# Altium schematic symbol library SCH_Sensor.SchLib: 18 symbols
Pins are listed as number, name and electrical type; pins without a type are passive.

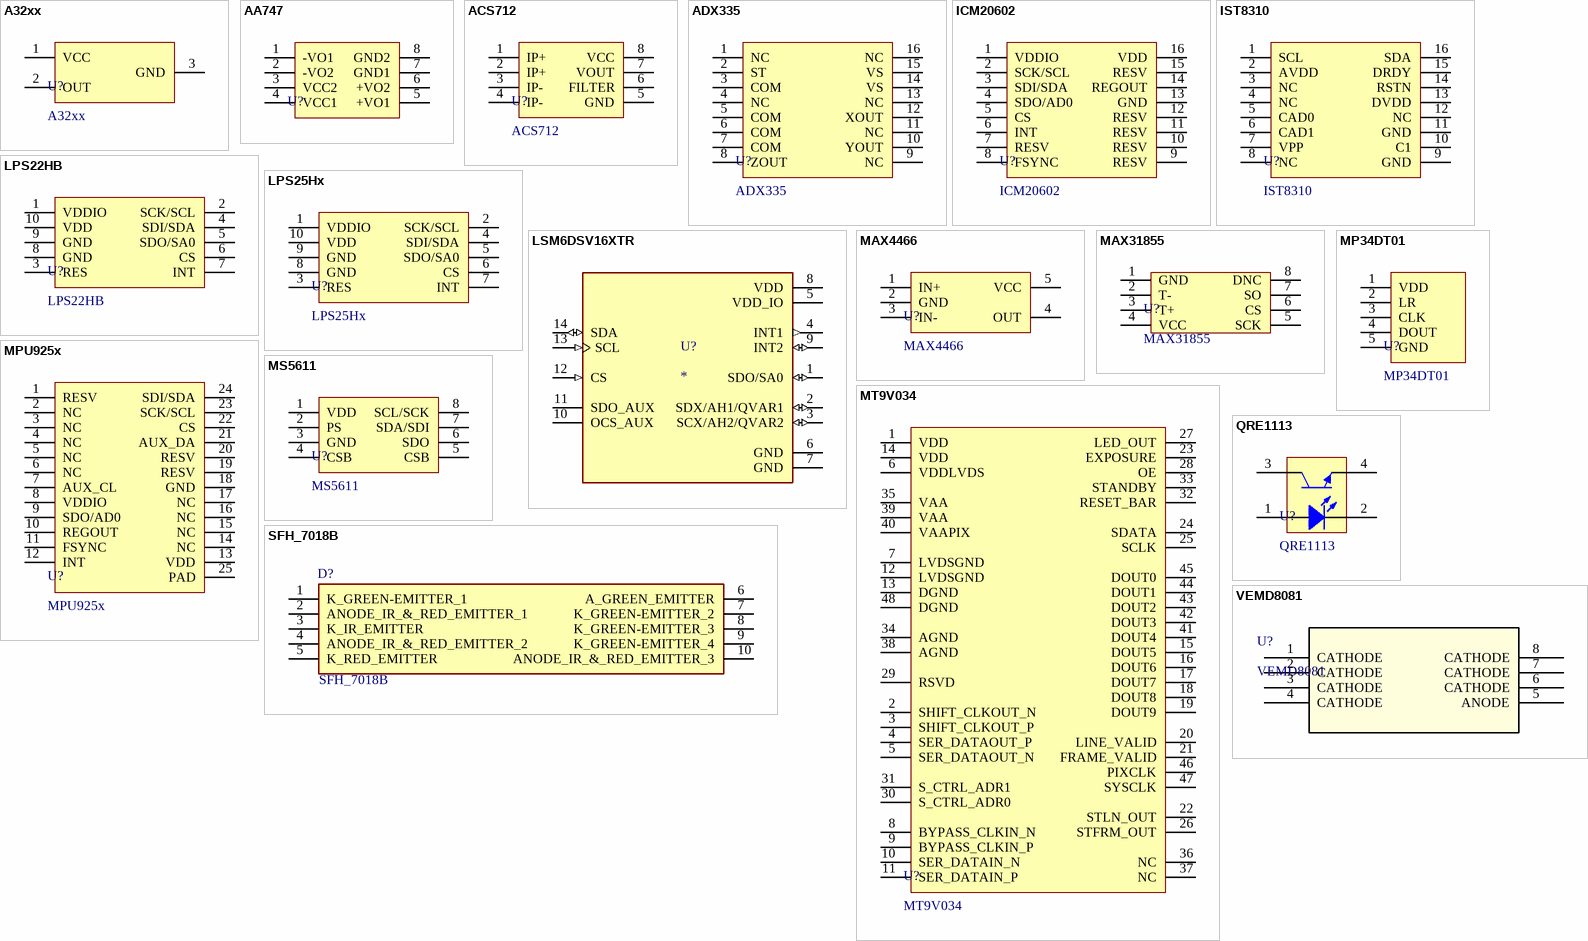
[diagram p0: symbols A32xx to VEMD8081]

## A32xx
designator U?
Sensor Hall; Type: *
footprint SOT23-3
pins: 1 VCC, 2 OUT, 3 GND

## AA747
designator U?  (value not drawn)
Sensor Angular; Manufacturer: Sensitec GmbH; Value: E150 P1.27; Specification: -40 °C to +150 °C; Type: SOP8; Parameter 1: *
footprint SOP_E150_8
pins: 1 -VO1, 2 -VO2, 3 VCC2, 4 VCC1, 5 +VO1, 6 +VO2, 7 GND1, 8 GND2

## ACS712
designator U?
Sensor Current; Type: *
footprint SOP_E150_8
pins: 1 IP+, 2 IP+, 3 IP-, 4 IP-, 5 GND, 6 FILTER, 7 VOUT, 8 VCC

## ADX335
designator U?
Sensor Motion; Type: *
footprint QFN_P0.65_16
pins: 1 NC, 2 ST, 3 COM, 4 NC, 5 COM, 6 COM, 7 COM, 8 ZOUT, 9 NC, 10 YOUT, 11 NC, 12 XOUT, 13 NC, 14 VS, 15 VS, 16 NC

## ICM20602
designator U?
Sensor Motion; Type: LGA16 P0.5
footprint LGA_P0.5_16
pins: 1 VDDIO, 2 SCK/SCL, 3 SDI/SDA, 4 SDO/AD0, 5 CS, 6 INT, 7 RESV, 8 FSYNC, 9 RESV, 10 RESV, 11 RESV, 12 RESV, 13 GND, 14 REGOUT, 15 RESV, 16 VDD

## IST8310
designator U?
Sensor Magnetometer; Type: QFN16 P0.5
footprint QFN_P0.5_16
pins: 1 SCL, 2 AVDD, 3 NC, 4 NC, 5 CAD0, 6 CAD1, 7 VPP, 8 NC, 9 GND, 10 C1, 11 GND, 12 NC, 13 DVDD, 14 RSTN, 15 DRDY, 16 SDA

## LPS22HB
designator U?
Sensor Pressure; Type: LGA10 P0.5
footprint HCLGA-2x2_10
pins: 1 VDDIO, 2 SCK/SCL, 3 RES, 4 SDI/SDA, 5 SDO/SA0, 6 CS, 7 INT, 8 GND, 9 GND, 10 VDD

## LPS25Hx
designator U?
Sensor Pressure
footprint HCLGA-2.5x2.5_10
pins: 1 VDDIO, 2 SCK/SCL, 3 RES, 4 SDI/SDA, 5 SDO/SA0, 6 CS, 7 INT, 8 GND, 9 GND, 10 VDD

## LSM6DSV16XTR
designator U?
Accelerometer, Gyroscope, Temperature, 6 Axis Sensor I2C, SPI Output; MF: STMicroelectronics; MP: LSM6DSV16XTR; SnapEDA_Link: https://www.snapeda.com/parts/LSM6DSV16XTR/STMicroelectronics/view-part/?ref=snap; Package: None; Value: *; Check_prices: https://www.snapeda.com/parts/LSM6DSV16XTR/STMicroelectronics/view-part/?ref=eda
footprint XDCR_LSM6DSV16XTR
pins: 1 SDO/SA0 (io), 2 SDX/AH1/QVAR1 (io), 3 SCX/AH2/QVAR2 (io), 4 INT1 (out), 5 VDD_IO (power), 6 GND (power), 7 GND (power), 8 VDD (power), 9 INT2 (io), 10 OCS_AUX, 11 SDO_AUX, 12 CS (in), 13 SCL (in), 14 SDA (io)

## MAX4466
designator U?
Sensor Microphone
footprint SOT23-5
pins: 1 IN+, 2 GND, 3 IN-, 4 OUT, 5 VCC

## MAX31855
designator U?
Sensor Thermocouple
footprint SOIC_E200_8
pins: 1 GND, 2 T-, 3 T+, 4 VCC, 5 SCK, 6 CS, 7 SO, 8 DNC

## MP34DT01
designator U?
Sensor Microphone
footprint HCLGA_3x4_4
pins: 1 VDD, 2 LR, 3 CLK, 4 DOUT, 5 GND

## MPU925x
designator U?
Sensor Motion; Type: QFN24 P0.4
footprint QFN_P0.4_24
pins: 1 RESV, 2 NC, 3 NC, 4 NC, 5 NC, 6 NC, 7 AUX_CL, 8 VDDIO, 9 SDO/AD0, 10 REGOUT, 11 FSYNC, 12 INT, 13 VDD, 14 NC, 15 NC, 16 NC, 17 NC, 18 GND, 19 RESV, 20 RESV, 21 AUX_DA, 22 CS, 23 SCK/SCL, 24 SDI/SDA, 25 PAD

## MS5611
designator U?
Sensor Barometer
footprint OTHER_MS5611_8
pins: 1 VDD, 2 PS, 3 GND, 4 CSB, 5 CSB, 6 SDO, 7 SDA/SDI, 8 SCL/SCK

## MT9V034
designator U?
Sensor Camera
footprint CLCC_48 (LCC, 48-Pins, Body 11.43x11.43mmx2.30mm, Pitch 0.80mm, IPC Medium Density)
pins: 1 VDD, 2 SHIFT_CLKOUT_N, 3 SHIFT_CLKOUT_P, 4 SER_DATAOUT_P, 5 SER_DATAOUT_N, 6 VDDLVDS, 7 LVDSGND, 8 BYPASS_CLKIN_N, 9 BYPASS_CLKIN_P, 10 SER_DATAIN_N, 11 SER_DATAIN_P, 12 LVDSGND, 13 DGND, 14 VDD, 15 DOUT5, 16 DOUT6, 17 DOUT7, 18 DOUT8, 19 DOUT9, 20 LINE_VALID, 21 FRAME_VALID, 22 STLN_OUT, 23 EXPOSURE, 24 SDATA, 25 SCLK, 26 STFRM_OUT, 27 LED_OUT, 28 OE, 29 RSVD, 30 S_CTRL_ADR0, 31 S_CTRL_ADR1, 32 RESET_BAR, 33 STANDBY, 34 AGND, 35 VAA, 36 NC, 37 NC, 38 AGND, 39 VAA, 40 VAAPIX, 41 DOUT4, 42 DOUT3, 43 DOUT2, 44 DOUT1, 45 DOUT0, 46 PIXCLK, 47 SYSCLK, 48 DGND

## QRE1113
designator U?
Sensor IR
footprint QRE1113GR
pins: 1 A, 2 C, 3 C, 4 E

## SFH_7018B
designator D?
Mid-Power LEDs - Multi-Color RED, GREEN, INFRARED LED SMD; Manufacturer_Name: ams OSRAM; Manufacturer_Part_Number: SFH 7018B; Geometry.Height: 0.6mm; Mouser Part Number: 720-SFH7018B; Mouser Price/Stock: https://www.mouser.co.uk/ProductDetail/ams-OSRAM/SFH-7018B?qs=Z%252BL2brAPG1IjnGWBrkM%2Fkg%3D%3D; Datasheet Link: https://ams-osram.com/products/leds/multi-color-leds/osram-multiled-sfh-7018b
footprint SFH7018B
pins: 1 K_GREEN-EMITTER_1, 2 ANODE_IR_&_RED_EMITTER_1, 3 K_IR_EMITTER, 4 ANODE_IR_&_RED_EMITTER_2, 5 K_RED_EMITTER, 6 A_GREEN_EMITTER, 7 K_GREEN-EMITTER_2, 8 K_GREEN-EMITTER_3, 9 K_GREEN-EMITTER_4, 10 ANODE_IR_&_RED_EMITTER_3

## VEMD8081
designator U?
Silicon PIN Photodiode -e4; Manufacturer_Name: Vishay; Copyright: Copyright (C) 2025 Ultra Librarian. All rights reserved.; Manufacturer_Part_Number: VEMD8081; RefDes: RefDes; Type: Type
footprint 6p550-5354p01-4_VIS
pins: 1 CATHODE, 2 CATHODE, 3 CATHODE, 4 CATHODE, 5 ANODE, 6 CATHODE, 7 CATHODE, 8 CATHODE